# Altium footprint library CONN-SMD_PH2.0-4PWB_2021-08-21.PcbLib: 1 footprints
Each footprint in its own frame and in the unit in brackets; x right, y up, seen from the top. Pads: shape width x height; smd on the part's side, far side on the other; paste and mask are expansions set on the pad; w line width, h text height; cw(c..) or ccw(c..) is an arc to the next point about the centre after c.
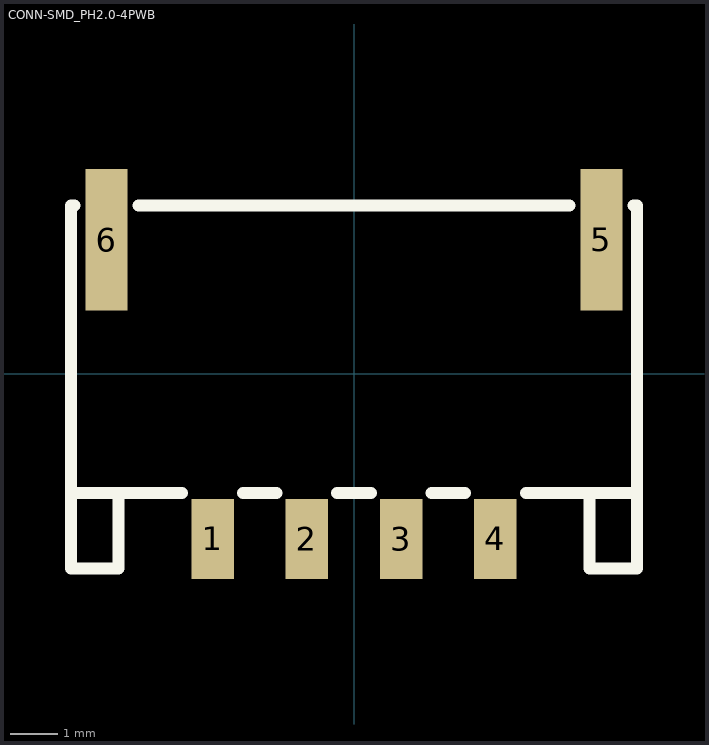
[diagram p0: the footprint, top view; thin cyan lines are the x and y axes]

## CONN-SMD_PH2.0-4PWB [mm]
pads (6):
  rect 0.9x1.7 smd: 1(-3,-3.5) 2(-1,-3.5) 3(1,-3.5) 4(3,-3.5)
  rect 0.9x3 smd: 5(5.25,2.85) 6(-5.25,2.85)
Top Overlay:
  lines w0.254: -5.931,3.575 -6,3.575 -6,-2.525 ; -4.569,3.575 2.569,3.575 4.569,3.575 ; -3.644,-2.525 -6,-2.525 ; -2.356,-2.525 -1.644,-2.525 ; -0.356,-2.525 0.356,-2.525 ; 1.644,-2.525 2.356,-2.525 ; 3.644,-2.525 6,-2.525 ; 5.931,3.575 6,3.575 6,-2.525 ; -6,-2.525 -6,-4.125 -5,-4.125 -5,-2.525 -6,-2.525 ; 6,-2.525 6,-4.125 5,-4.125 5,-2.525 6,-2.525